# EAGLE library part SDRAM_B2_A13_D16-? (library ic-RAM)
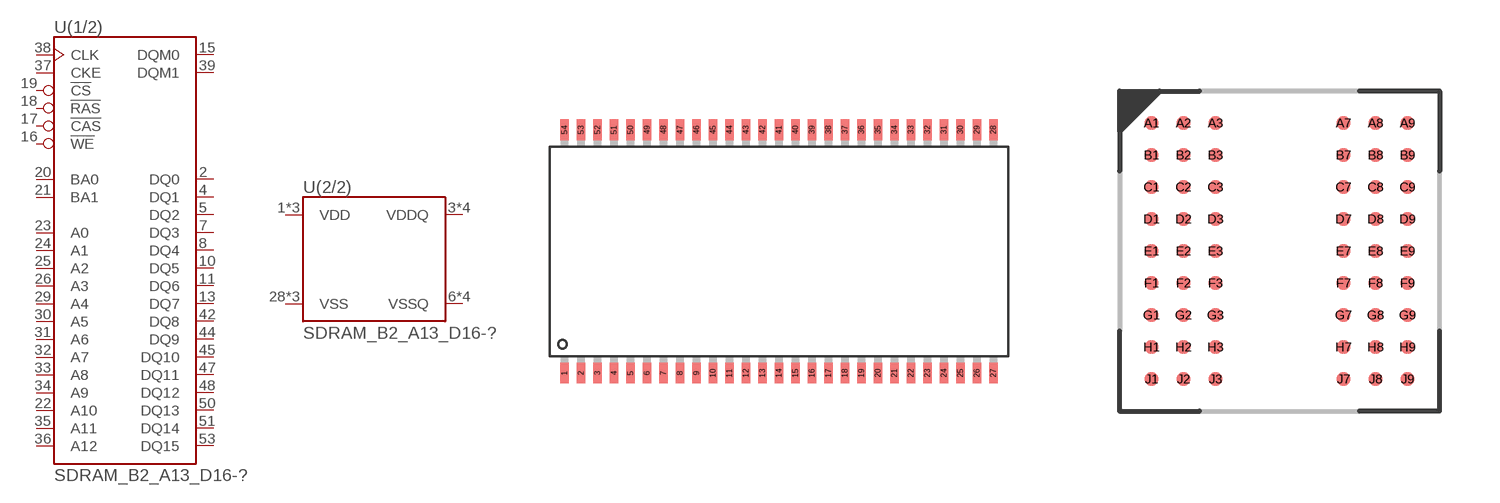
[diagram p0: symbol with the pads of TSOP54; footprints TSOP54, BGA54-0.8_8]

Designator prefix U; gates (1/2)=SDRAM_B2_A13_D16 (2/2)=SDRAM_POWER

## SDRAM_B2_A13_D16-TSOP  [TSOP54]
1  (2/2):VDD
2  (1/2):DQ0
3  (2/2):VDDQ
4  (1/2):DQ1
5  (1/2):DQ2
6  (2/2):VSSQ
7  (1/2):DQ3
8  (1/2):DQ4
9  (2/2):VDDQ
10  (1/2):DQ5
11  (1/2):DQ6
12  (2/2):VSSQ
13  (1/2):DQ7
14  (2/2):VDD
15  (1/2):DQM0
16  (1/2):!WE
17  (1/2):!CAS
18  (1/2):!RAS
19  (1/2):!CS
20  (1/2):BA0
21  (1/2):BA1
22  (1/2):A10
23  (1/2):A0
24  (1/2):A1
25  (1/2):A2
26  (1/2):A3
27  (2/2):VDD
28  (2/2):VSS
29  (1/2):A4
30  (1/2):A5
31  (1/2):A6
32  (1/2):A7
33  (1/2):A8
34  (1/2):A9
35  (1/2):A11
36  (1/2):A12
37  (1/2):CKE
38  (1/2):CLK
39  (1/2):DQM1
41  (2/2):VSS
42  (1/2):DQ8
43  (2/2):VDDQ
44  (1/2):DQ9
45  (1/2):DQ10
46  (2/2):VSSQ
47  (1/2):DQ11
48  (1/2):DQ12
49  (2/2):VDDQ
50  (1/2):DQ13
51  (1/2):DQ14
52  (2/2):VSSQ
53  (1/2):DQ15
54  (2/2):VSS

## SDRAM_B2_A13_D16-BGA_8  [BGA54-0.8_8]
A1  (2/2):VSS
A2  (1/2):DQ15
A3  (2/2):VSSQ
A7  (2/2):VDDQ
A8  (1/2):DQ0
A9  (2/2):VDD
B1  (1/2):DQ14
B2  (1/2):DQ13
B3  (2/2):VDDQ
B7  (2/2):VSSQ
B8  (1/2):DQ2
B9  (1/2):DQ1
C1  (1/2):DQ12
C2  (1/2):DQ11
C3  (2/2):VSSQ
C7  (2/2):VDDQ
C8  (1/2):DQ4
C9  (1/2):DQ3
D1  (1/2):DQ10
D2  (1/2):DQ9
D3  (2/2):VDDQ
D7  (2/2):VSSQ
D8  (1/2):DQ6
D9  (1/2):DQ5
E1  (1/2):DQ8
E3  (2/2):VSS
E7  (2/2):VDD
E8  (1/2):DQM0
E9  (1/2):DQ7
F1  (1/2):DQM1
F2  (1/2):CLK
F3  (1/2):CKE
F7  (1/2):!CAS
F8  (1/2):!RAS
F9  (1/2):!WE
G1  (1/2):A12
G2  (1/2):A11
G3  (1/2):A9
G7  (1/2):BA0
G8  (1/2):BA1
G9  (1/2):!CS
H1  (1/2):A8
H2  (1/2):A7
H3  (1/2):A6
H7  (1/2):A0
H8  (1/2):A1
H9  (1/2):A10
J1  (2/2):VSS
J2  (1/2):A5
J3  (1/2):A4
J7  (1/2):A3
J8  (1/2):A2
J9  (2/2):VDD

## SDRAM_B2_A13_D16-BGA_13  [BGA54-0.8_13]
Pads as for BGA54-0.8_8

## Footprint TSOP54 (pad centres in mm)
smd 0.4 x 1: 1 -10.4,-5.9; 2 -9.6,-5.9; 3 -8.8,-5.9; 4 -8,-5.9; 5 -7.2,-5.9; 6 -6.4,-5.9; 7 -5.6,-5.9; 8 -4.8,-5.9; 9 -4,-5.9; 10 -3.2,-5.9; 11 -2.4,-5.9; 12 -1.6,-5.9; 13 -0.8,-5.9; 14 0,-5.9; 15 0.8,-5.9; 16 1.6,-5.9; 17 2.4,-5.9; 18 3.2,-5.9; 19 4,-5.9; 20 4.8,-5.9; 21 5.6,-5.9; 22 6.4,-5.9; 23 7.2,-5.9; 24 8,-5.9; 25 8.8,-5.9; 26 9.6,-5.9; 27 10.4,-5.9; 28 10.4,5.9; 29 9.6,5.9; 30 8.8,5.9; 31 8,5.9; 32 7.2,5.9; 33 6.4,5.9; 34 5.6,5.9; 35 4.8,5.9; 36 4,5.9; 37 3.2,5.9; 38 2.4,5.9; 39 1.6,5.9; 40 0.8,5.9; 41 0,5.9; 42 -0.8,5.9; 43 -1.6,5.9; 44 -2.4,5.9; 45 -3.2,5.9; 46 -4,5.9; 47 -4.8,5.9; 48 -5.6,5.9; 49 -6.4,5.9; 50 -7.2,5.9; 51 -8,5.9; 52 -8.8,5.9; 53 -9.6,5.9; 54 -10.4,5.9

## Footprint BGA54-0.8_8 (pad centres in mm)
smd 0.34 x 0.34: A1 -3.2,3.2; A2 -2.4,3.2; A3 -1.6,3.2; A7 1.6,3.2; A8 2.4,3.2; A9 3.2,3.2; B1 -3.2,2.4; B2 -2.4,2.4; B3 -1.6,2.4; B7 1.6,2.4; B8 2.4,2.4; B9 3.2,2.4; C1 -3.2,1.6; C2 -2.4,1.6; C3 -1.6,1.6; C7 1.6,1.6; C8 2.4,1.6; C9 3.2,1.6; D1 -3.2,0.8; D2 -2.4,0.8; D3 -1.6,0.8; D7 1.6,0.8; D8 2.4,0.8; D9 3.2,0.8; E1 -3.2,0; E2 -2.4,0; E3 -1.6,0; E7 1.6,0; E8 2.4,0; E9 3.2,0; F1 -3.2,-0.8; F2 -2.4,-0.8; F3 -1.6,-0.8; F7 1.6,-0.8; F8 2.4,-0.8; F9 3.2,-0.8; G1 -3.2,-1.6; G2 -2.4,-1.6; G3 -1.6,-1.6; G7 1.6,-1.6; G8 2.4,-1.6; G9 3.2,-1.6; H1 -3.2,-2.4; H2 -2.4,-2.4; H3 -1.6,-2.4; H7 1.6,-2.4; H8 2.4,-2.4; H9 3.2,-2.4; J1 -3.2,-3.2; J2 -2.4,-3.2; J3 -1.6,-3.2; J7 1.6,-3.2; J8 2.4,-3.2; J9 3.2,-3.2

## Footprint BGA54-0.8_13 (pad centres in mm)
smd 0.34 x 0.34: A1 -3.2,3.2; A2 -2.4,3.2; A3 -1.6,3.2; A7 1.6,3.2; A8 2.4,3.2; A9 3.2,3.2; B1 -3.2,2.4; B2 -2.4,2.4; B3 -1.6,2.4; B7 1.6,2.4; B8 2.4,2.4; B9 3.2,2.4; C1 -3.2,1.6; C2 -2.4,1.6; C3 -1.6,1.6; C7 1.6,1.6; C8 2.4,1.6; C9 3.2,1.6; D1 -3.2,0.8; D2 -2.4,0.8; D3 -1.6,0.8; D7 1.6,0.8; D8 2.4,0.8; D9 3.2,0.8; E1 -3.2,0; E2 -2.4,0; E3 -1.6,0; E7 1.6,0; E8 2.4,0; E9 3.2,0; F1 -3.2,-0.8; F2 -2.4,-0.8; F3 -1.6,-0.8; F7 1.6,-0.8; F8 2.4,-0.8; F9 3.2,-0.8; G1 -3.2,-1.6; G2 -2.4,-1.6; G3 -1.6,-1.6; G7 1.6,-1.6; G8 2.4,-1.6; G9 3.2,-1.6; H1 -3.2,-2.4; H2 -2.4,-2.4; H3 -1.6,-2.4; H7 1.6,-2.4; H8 2.4,-2.4; H9 3.2,-2.4; J1 -3.2,-3.2; J2 -2.4,-3.2; J3 -1.6,-3.2; J7 1.6,-3.2; J8 2.4,-3.2; J9 3.2,-3.2